# EAGLE library part XCF04S (library _GpsAttitude)
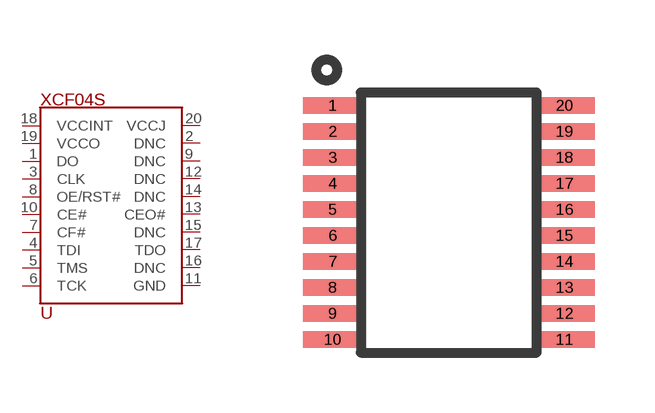
[diagram p7: symbol with the pads of TSSOP20; footprint TSSOP20]

Designator prefix U

## XCF04S-V020  [TSSOP20]
1  DO
2  DNC
3  CLK
4  TDI
5  TMS
6  TCK
7  CF#
8  OE/RST#
9  DNC
10  CE#
11  GND
12  DNC
13  CEO#
14  DNC
15  DNC
16  DNC
17  TDO
18  VCCINT
19  VCCO
20  VCCJ

## Footprint TSSOP20 (pad centres in mm)
smd 1.5 x 0.41: 1 -2.9,2.925; 2 -2.9,2.275; 3 -2.9,1.625; 4 -2.9,0.975; 5 -2.9,0.325; 6 -2.9,-0.325; 7 -2.9,-0.975; 8 -2.9,-1.625; 9 -2.9,-2.275; 10 -2.9,-2.925; 11 2.9,-2.925; 12 2.9,-2.275; 13 2.9,-1.625; 14 2.9,-0.975; 15 2.9,-0.325; 16 2.9,0.325; 17 2.9,0.975; 18 2.9,1.625; 19 2.9,2.275; 20 2.9,2.925